# Altium integrated library OLED-128O064H-GPP3N00000.IntLib: 1 symbol
Pins are listed as number, name and electrical type; pins without a type are passive.

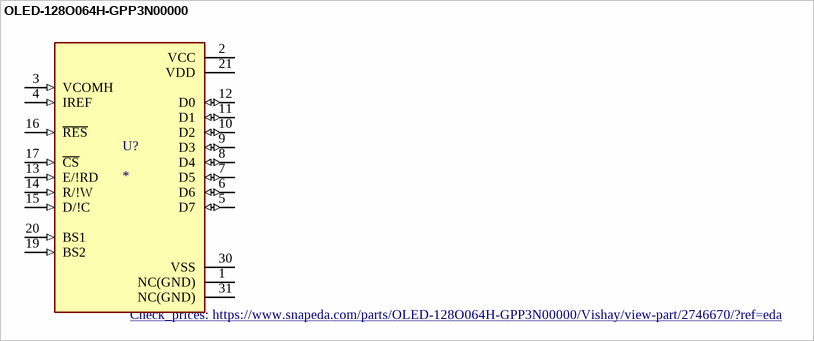
[diagram p0: symbol OLED-128O064H-GPP3N00000]

## OLED-128O064H-GPP3N00000
designator U?
Green OLED Display Graphic Display Parallel/ SPI(Option) Interface 3V 31-Pin; MP: OLED-128O064H-GPP3N00000; MF: Vishay; SnapEDA_Link: https://www.snapeda.com/parts/OLED-128O064H-GPP3N00000/Vishay/view-part/2746670/?ref=snap; Price: None; Package: None; Arrow_Electronics-Purchase-URL: https://snapeda.com/shop?store=Arrow+Electronics&id=2746670; Value: *; Availability: Bad; Check_prices: https://www.snapeda.com/parts/OLED-128O064H-GPP3N00000/Vishay/view-part/2746670/?ref=eda
footprint MODULE_OLED-128O064H-GPP3N00000
pins: 1 NC(GND), 2 VCC (power), 3 VCOMH (in), 4 IREF (in), 5 D7 (io), 6 D6 (io), 7 D5 (io), 8 D4 (io), 9 D3 (io), 10 D2 (io), 11 D1 (io), 12 D0 (io), 13 E/!RD (in), 14 R/!W (in), 15 D/!C (in), 16 ~{RES} (in), 17 ~{CS} (in), 19 BS2 (in), 20 BS1 (in), 21 VDD (power), 30 VSS (power), 31 NC(GND)